# Altium schematic symbol library SamacSys.SchLib: 1281 symbols (part 13 of 13)
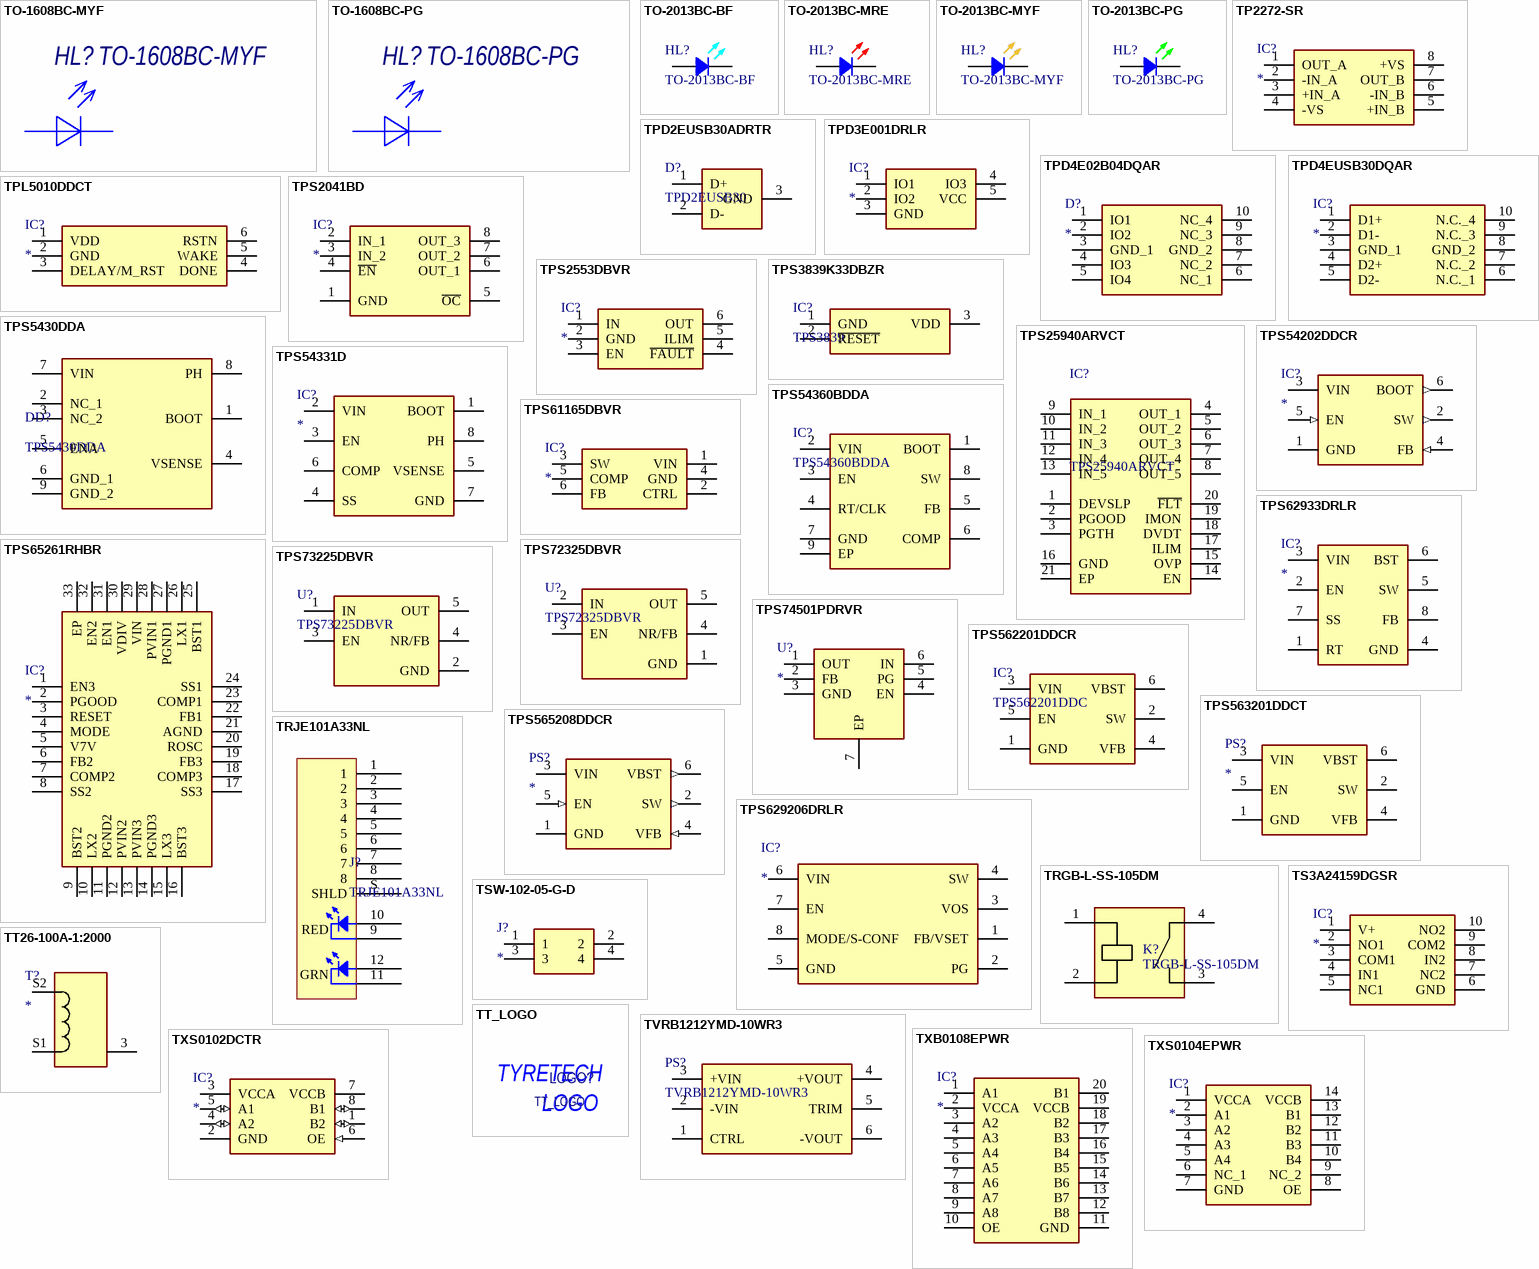
[diagram p59: symbols TO-1608BC-MYF to TXS0104EPWR]

## TPL5010DDCT
designator IC?
Integrated Circuit; Manufacturer_Name: Texas Instruments; Manufacturer_Part_Number: TPL5010DDCT; Datasheet Link: http://www.ti.com/lit/ds/symlink/tpl5010.pdf; Height: 1.1mm; Mouser Part Number: 595-TPL5010DDCT; Mouser Price/Stock: https://www.mouser.co.uk/ProductDetail/Texas-Instruments/TPL5010DDCT?qs=beZBGHSk9c06Mf4cbaYiUA%3D%3D; Arrow Part Number: TPL5010DDCT; Arrow Price/Stock: https://www.arrow.com/en/products/tpl5010ddct/texas-instruments?region=nac
footprint SOT95P280X110-6N
pins: 1 VDD, 2 GND, 3 DELAY/M_RST, 4 DONE, 5 WAKE, 6 RSTN

## TPS2041BD
designator IC?
IC PWR SWITCH N-CHAN 1:1 8SOIC; Manufacturer_Name: Texas Instruments; Manufacturer_Part_Number: TPS2041BD; Datasheet Link: http://www.ti.com/lit/gpn/tps2041b; Height: 1.75mm; Mouser Part Number: 595-TPS2041BD; Mouser Price/Stock: https://www.mouser.co.uk/ProductDetail/Texas-Instruments/TPS2041BD?qs=ojKcPFmCWSXYqmPq5V0woQ%3D%3D; Arrow Part Number: TPS2041BD; Arrow Price/Stock: https://www.arrow.com/en/products/tps2041bd/texas-instruments?region=nac
footprint SOIC127P600X175-8N
pins: 1 GND, 2 IN_1, 3 IN_2, 4 ~{EN}, 5 ~{OC}, 6 OUT_1, 7 OUT_2, 8 OUT_3

## TPS2553DBVR
designator IC?
IC PWR SWITCH N-CHAN 1.5A 1:1 SOT23-6; Manufacturer_Name: Texas Instruments; Manufacturer_Part_Number: TPS2553DBVR; Datasheet Link: http://www.ti.com/lit/gpn/tps2553; Height: 1.45mm; Mouser Part Number: 595-TPS2553DBVR; Mouser Price/Stock: https://www.mouser.co.uk/ProductDetail/Texas-Instruments/TPS2553DBVR?qs=QZKT0uTfj2LY8QSfRgrLvA%3D%3D; Arrow Part Number: TPS2553DBVR; Arrow Price/Stock: https://www.arrow.com/en/products/tps2553dbvr/texas-instruments?region=nac
footprint SOT95P280X145-6N
pins: 1 IN, 2 GND, 3 EN, 4 ~{FAULT}, 5 ILIM, 6 OUT

## TPS3839K33DBZR
designator IC?, comment TPS3839
IC SUPERVISOR RESET 200msSOT-23-3; Manufacturer_Name: Texas Instruments; Manufacturer_Part_Number: TPS3839K33DBZR; Datasheet Link: https://www.ti.com/lit/gpn/TPS3839; Height: 1.12mm; Mouser Part Number: 595-TPS3839K33DBZR; Mouser Price/Stock: https://www.mouser.co.uk/ProductDetail/Texas-Instruments/TPS3839K33DBZR?qs=4whTb%2F0XQMjHAv1zNV0Odw%3D%3D; Arrow Part Number: TPS3839K33DBZR; Arrow Price/Stock: https://www.arrow.com/en/products/tps3839k33dbzr/texas-instruments?region=nac
footprint SOT95P237X112-3N
pins: 1 GND, 2 ~{RESET}, 3 VDD

## TPS5430DDA
designator DD?
IC DCDC BUCK 5,5-36Vin 3A; Manufacturer_Name: Texas Instruments; Datasheet Link: https://datasheet.datasheetarchive.com/originals/distributors/Datasheets-SFU2/DSASFU100034215.pdf; Height: 1.7mm; Manufacturer_Part_Number: TPS5430DDA; Mouser Part Number: 595-TPS5430DDA; Mouser Price/Stock: https://www.mouser.co.uk/ProductDetail/Texas-Instruments/TPS5430DDA?qs=zwk82MlA57bk5fOPRvfoCA%3D%3D; Arrow Part Number: TPS5430DDA; Arrow Price/Stock: https://www.arrow.com/en/products/tps5430dda/texas-instruments?region=nac
footprint SOIC127P600X170-9N
pins: 1 BOOT, 2 NC_1, 3 NC_2, 4 VSENSE, 5 ENA, 6 GND_1, 7 VIN, 8 PH, 9 GND_2

## TPS25940ARVCT
designator IC?
18V, 5A, 42m eFuse With Integrated Reverse Current Protection and DevSleep Support; Manufacturer_Name: Texas Instruments; Geometry.Height: 0.8mm; Manufacturer_Part_Number: TPS25940ARVCT; Mouser Part Number: 595-TPS25940ARVCT; Mouser Price/Stock: https://www.mouser.co.uk/ProductDetail/Texas-Instruments/TPS25940ARVCT?qs=1MXlzafEN39WRT24Wg%2FJYg%3D%3D; Arrow Part Number: TPS25940ARVCT; Arrow Price/Stock: https://www.arrow.com/en/products/tps25940arvct/texas-instruments?region=europe; Datasheet Link: http://www.ti.com/lit/gpn/tps25940
footprint QFN50P300X400X80-21N
pins: 1 DEVSLP, 2 PGOOD, 3 PGTH, 4 OUT_1, 5 OUT_2, 6 OUT_3, 7 OUT_4, 8 OUT_5, 9 IN_1, 10 IN_2, 11 IN_3, 12 IN_4, 13 IN_5, 14 EN, 15 OVP, 16 GND, 17 ILIM, 18 DVDT, 19 IMON, 20 ~{FLT}, 21 EP

## TPS54202DDCR
designator IC?
IC REG DCDC BUCK ADJ VIN 4.5-28V 2A SOT23; Manufacturer_Name: Texas Instruments; Manufacturer_Part_Number: TPS54202DDCR; Datasheet Link: http://www.ti.com/lit/gpn/tps54202; Height: 1.1mm; Arrow Part Number: TPS54202DDCR; Arrow Price/Stock: https://www.arrow.com/en/products/tps54202ddcr/texas-instruments?utm_currency=USD&region=europe
footprint SOT95P280X110-6N
pins: 1 GND (power), 2 SW (out), 3 VIN (power), 4 FB (in), 5 EN (in), 6 BOOT (out)

## TPS54331D
designator IC?
Integrated Circuit; Manufacturer_Name: Texas Instruments; Manufacturer_Part_Number: TPS54331D; Datasheet Link: http://www.ti.com/lit/gpn/tps54331; Height: 1.75mm; Mouser Part Number: 595-TPS54331D; Mouser Price/Stock: https://www.mouser.co.uk/ProductDetail/Texas-Instruments/TPS54331D?qs=QyYHynRG50pEbpiybdzwkw%3D%3D; Arrow Part Number: TPS54331D; Arrow Price/Stock: https://www.arrow.com/en/products/tps54331d/texas-instruments?region=nac
footprint SOIC127P600X175-8N
pins: 1 BOOT, 2 VIN, 3 EN, 4 SS, 5 VSENSE, 6 COMP, 7 GND, 8 PH

## TPS54360BDDA
designator IC?
IC REG BUCK ADJ 3.5A 8SOPWR; Manufacturer_Name: Texas Instruments; Datasheet Link: https://www.ti.com/lit/gpn/tps54360b; Height: 1.7mm; Manufacturer_Part_Number: TPS54360BDDA; Mouser Part Number: 595-TPS54360BDDA; Mouser Price/Stock: https://www.mouser.co.uk/ProductDetail/Texas-Instruments/TPS54360BDDA?qs=l7cgNqFNU1hVzPeNs26qdQ%3D%3D; Arrow Part Number: TPS54360BDDA; Arrow Price/Stock: https://www.arrow.com/en/products/tps54360bdda/texas-instruments.html?utm_currency=USD&region=nac
footprint SOIC127P600X170-9N
pins: 1 BOOT, 2 VIN, 3 EN, 4 RT/CLK, 5 FB, 6 COMP, 7 GND, 8 SW, 9 EP

## TPS61165DBVR
designator IC?
Integrated Circuit; Manufacturer_Name: Texas Instruments; Manufacturer_Part_Number: TPS61165DBVR; Datasheet Link: https://www.ti.com/lit/gpn/TPS61165; Height: 1.45mm; Mouser Part Number: 595-TPS61165DBVR; Mouser Price/Stock: https://www.mouser.co.uk/ProductDetail/Texas-Instruments/TPS61165DBVR?qs=HM7Ob9npyBLl0sTgi6JQSQ%3D%3D; Arrow Part Number: TPS61165DBVR; Arrow Price/Stock: https://www.arrow.com/en/products/tps61165dbvr/texas-instruments?region=nac
footprint SOT95P280X145-6N
pins: 1 VIN, 2 CTRL, 3 SW, 4 GND, 5 COMP, 6 FB

## TPS62933DRLR
designator IC?
Integrated Circuit; Manufacturer_Name: Texas Instruments; Manufacturer_Part_Number: TPS62933DRLR; Datasheet Link: https://www.ti.com/lit/ds/symlink/tps62933.pdf?ts=1626073394234; Height: 0.6mm; Mouser Part Number: 595-TPS62933DRLR; Mouser Price/Stock: https://www.mouser.co.uk/ProductDetail/Texas-Instruments/TPS62933DRLR?qs=Rp5uXu7WBW9fv47wfQVntQ%3D%3D; Arrow Part Number: TPS62933DRLR; Arrow Price/Stock: https://www.arrow.com/en/products/tps62933drlr/texas-instruments?region=nac
footprint SOTFL50P160X60-8N
pins: 1 RT, 2 EN, 3 VIN, 4 GND, 5 SW, 6 BST, 7 SS, 8 FB

## TPS65261RHBR
designator IC?
Integrated Circuit; Manufacturer_Name: Texas Instruments; Manufacturer_Part_Number: TPS65261RHBR; Datasheet Link: http://www.ti.com/lit/gpn/tps65261; Height: 1mm; Mouser Part Number: 595-TPS65261RHBR; Mouser Price/Stock: https://www.mouser.co.uk/ProductDetail/Texas-Instruments/TPS65261RHBR?qs=wrT8kFYR779HFUFgnzaynQ%3D%3D; Arrow Part Number: TPS65261RHBR; Arrow Price/Stock: https://www.arrow.com/en/products/tps65261rhbr/texas-instruments?region=nac
footprint QFN50P500X500X100-33N-D
pins: 1 EN3, 2 PGOOD, 3 RESET, 4 MODE, 5 V7V, 6 FB2, 7 COMP2, 8 SS2, 9 BST2, 10 LX2, 11 PGND2, 12 PVIN2, 13 PVIN3, 14 PGND3, 15 LX3, 16 BST3, 17 SS3, 18 COMP3, 19 FB3, 20 ROSC, 21 AGND, 22 FB1, 23 COMP1, 24 SS1, 25 BST1, 26 LX1, 27 PGND1, 28 PVIN1, 29 VIN, 30 VDIV, 31 EN1, 32 EN2, 33 EP

## TPS72325DBVR
designator U?
Integrated Circuit; Manufacturer_Name: Texas Instruments; Datasheet Link: https://datasheet.datasheetarchive.com/originals/distributors/Datasheets-SFU2/DSASFU100034060.pdf; Height: 1.45mm; Manufacturer_Part_Number: TPS72325DBVR; Mouser Part Number: 595-TPS72325DBVR; Mouser Price/Stock: https://www.mouser.co.uk/ProductDetail/Texas-Instruments/TPS72325DBVR?qs=6zVL%252ByCp0mrCtYCk6%2F08lw%3D%3D; Arrow Part Number: TPS72325DBVR; Arrow Price/Stock: https://www.arrow.com/en/products/tps72325dbvr/texas-instruments?region=nac
footprint SOT95P280X145-5N
pins: 1 GND, 2 IN, 3 EN, 4 NR/FB, 5 OUT

## TPS73225DBVR
designator U?
Integrated Circuit; Manufacturer_Name: Texas Instruments; Datasheet Link: http://www.ti.com/lit/gpn/TPS732; Height: 1.45mm; Manufacturer_Part_Number: TPS73225DBVR; Mouser Part Number: 595-TPS73225DBVR; Mouser Price/Stock: https://www.mouser.co.uk/ProductDetail/Texas-Instruments/TPS73225DBVR?qs=6zVL%252ByCp0mppRt%2FlO1M%2F9w%3D%3D; Arrow Part Number: TPS73225DBVR; Arrow Price/Stock: https://www.arrow.com/en/products/tps73225dbvr/texas-instruments
footprint SOT95P280X145-5N
pins: 1 IN, 2 GND, 3 EN, 4 NR/FB, 5 OUT

## TPS74501PDRVR
designator U?
Integrated Circuit; Manufacturer_Name: Texas Instruments; Manufacturer_Part_Number: TPS74501PDRVR; Datasheet Link: http://www.ti.com/lit/gpn/TPS745; Height: 0.8mm; Mouser Part Number: 595-TPS74501PDRVR; Mouser Price/Stock: https://www.mouser.com/Search/Refine.aspx?Keyword=595-TPS74501PDRVR; Arrow Part Number: TPS74501PDRVR; Arrow Price/Stock: https://www.arrow.com/en/products/tps74501pdrvr/texas-instruments
footprint SON65P200X200X80-7N
pins: 1 OUT, 2 FB, 3 GND, 4 EN, 5 PG, 6 IN, 7 EP

## TPS562201DDCR
designator IC?, comment TPS562201DDC
Integrated Circuit, DCDC, 4.5 V to 17 V, 2A; Manufacturer_Name: Texas Instruments; Manufacturer_Part_Number: TPS562201DDCR; Datasheet Link: http://www.ti.com/lit/gpn/tps562201; Height: 1.1mm; Mouser Part Number: 595-TPS562201DDCR; Mouser Price/Stock: https://www.mouser.co.uk/ProductDetail/Texas-Instruments/TPS562201DDCR?qs=8%2FmU9qzJpL8znxxpy0ZjNg%3D%3D; Arrow Part Number: TPS562201DDCR; Arrow Price/Stock: https://www.arrow.com/en/products/tps562201ddcr/texas-instruments?region=nac
footprint SOT95P280X110-6N
pins: 1 GND, 2 SW, 3 VIN, 4 VFB, 5 EN, 6 VBST

## TPS563201DDCT
designator PS?
Power Supply; Manufacturer_Name: Texas Instruments; Manufacturer_Part_Number: TPS563201DDCT; Datasheet Link: http://www.ti.com/general/docs/lit/getliterature.tsp?genericPartNumber=tps563201&fileType=pdf; Height: 1.1mm; Mouser Part Number: 595-TPS563201DDCT; Mouser Price/Stock: https://www.mouser.co.uk/ProductDetail/Texas-Instruments/TPS563201DDCT?qs=G55MHhPmvtJpxrlgluYVKA%3D%3D; Arrow Part Number: TPS563201DDCT; Arrow Price/Stock: https://www.arrow.com/en/products/tps563201ddct/texas-instruments?utm_currency=USD&region=nac
footprint SOT95P280X110-6N
pins: 1 GND, 2 SW, 3 VIN, 4 VFB, 5 EN, 6 VBST

## TPS565208DDCR
designator PS?
Power Supply; Manufacturer_Name: Texas Instruments; Manufacturer_Part_Number: TPS565208DDCR; Datasheet Link: http://www.ti.com/lit/gpn/tps565208; Height: 1.1mm; Mouser Part Number: 595-TPS565208DDCR; Mouser Price/Stock: https://www.mouser.co.uk/ProductDetail/Texas-Instruments/TPS565208DDCR?qs=YCa%2FAAYMW00vylGjeU1iOg%3D%3D; Arrow Part Number: TPS565208DDCR; Arrow Price/Stock: https://www.arrow.com/en/products/tps565208ddcr/texas-instruments?region=nac
footprint SOT95P280X110-6N
pins: 1 GND (power), 2 SW (out), 3 VIN (power), 4 VFB (in), 5 EN (in), 6 VBST (out)

## TPS629206DRLR
designator IC?
Integrated Circuit; Manufacturer_Name: Texas Instruments; Manufacturer_Part_Number: TPS629206QDRLRQ1; Datasheet Link: https://www.ti.com/lit/gpn/TPS629206-Q1; Height: 0.6mm; Mouser Part Number: 595-TPS629206QDRLRQ1; Mouser Price/Stock: https://www.mouser.co.uk/ProductDetail/Texas-Instruments/TPS629206QDRLRQ1?qs=Znm5pLBrcAKSjTz%252BzqwnCQ%3D%3D; Arrow Part Number: TPS629206QDRLRQ1; Arrow Price/Stock: https://www.arrow.com/en/products/tps629206qdrlrq1/texas-instruments?region=nac
footprint SOTFL50P160X60-8N
pins: 1 FB/VSET, 2 PG, 3 VOS, 4 SW, 5 GND, 6 VIN, 7 EN, 8 MODE/S-CONF

## TRGB-L-SS-105DM
designator K?
Relay, 1NO, 277VAC/5A
footprint TRGB-L-SS-124DM
pins: 1 COIL_1, 2 NC, 3 NO, 4 COIL_2

## TRJE101A33NL
designator J?
Magnetic Jack
footprint TRJE101A33NL (Modular Jack)
pins: 1, 2, 3, 4, 5, 6, 7, 8, 9 P9, 10 P10, 11 P11, 12 P12, S SHLD
text: RED; GRN

## TS3A24159DGSR
designator IC?
Integrated Circuit; Manufacturer_Name: Texas Instruments; Manufacturer_Part_Number: TS3A24159DGSR; Datasheet Link: https://datasheet.datasheetarchive.com/originals/distributors/Datasheets-DGA16/948601.pdf; Height: 1.1mm; Mouser Part Number: 595-TS3A24159DGSR; Mouser Price/Stock: https://www.mouser.co.uk/ProductDetail/Texas-Instruments/TS3A24159DGSR?qs=0OHPnBYoB%2Flfi%2F6h%252BEz0kA%3D%3D; Arrow Part Number: TS3A24159DGSR; Arrow Price/Stock: https://www.arrow.com/en/products/ts3a24159dgsr/texas-instruments?utm_currency=USD&region=nac
footprint SOP50P490X110-10N
pins: 1 V+, 2 NO1, 3 COM1, 4 IN1, 5 NC1, 6 GND, 7 NC2, 8 IN2, 9 COM2, 10 NO2

## TSW-102-05-G-D
designator J?
Connector; Manufacturer_Name: SAMTEC; Manufacturer_Part_Number: TSW-102-05-G-D; Datasheet Link: http://suddendocs.samtec.com/catalog_english/tsw_th.pdf; Height: 5.21mm; Mouser Part Number: 200-TSW10205GD; Mouser Price/Stock: https://www.mouser.co.uk/ProductDetail/Samtec/TSW-102-05-G-D?qs=rU5fayqh%252BE0ksWKDIngWOA%3D%3D; Arrow Part Number: TSW-102-05-G-D; Arrow Price/Stock: https://www.arrow.com/en/products/tsw-102-05-g-d/samtec
footprint HDRV4W64P254_2X2_508X508X521P
pins: 1, 2, 3, 4

## TT26-100A-1:2000
designator T?
Transformer Current; Manufacturer_Name: Up Electronic; Manufacturer_Part_Number: DL-CT1005A; Datasheet Link: http://www.eltranstech.ru/products/izmeritelnye-transformatory-i-datchiki-toka/transformatory-serii-tt26/tt26-100a-xx-z-0-1-2000/; Height: 25mm
footprint TT
pins: 3 NC_1, S1, S2

## TT_LOGO
designator LOGO?  (no BOM)
footprint TT_LOGO
footprint TT_LOGO_SMALL
text: TYRETECH; LOGO

## TVRB1212YMD-10WR3
designator PS?
Power Supply, 12V (9-18V) -> 12V, 833mA, 10W; Manufacturer_Name: Mornsun; Manufacturer_Part_Number: URB1D15LD-20WR3; Datasheet Link: https://www.mornsun-power.com/html/pdf/URB1D15LD-20WR3.html; Height: 11.8
footprint PDQE30
pins: 1 CTRL, 2 -VIN, 3 +VIN, 4 +VOUT, 5 TRIM, 6 -VOUT

## TXB0108EPWR
designator IC?
Integrated Circuit; Manufacturer_Name: Texas Instruments; Manufacturer_Part_Number: TXB0108EPWR; Datasheet Link: http://www.ti.com/lit/ds/symlink/txb0108.pdf; Height: 1.2mm
footprint SOP65P640X120-20N
pins: 1 A1, 2 VCCA, 3 A2, 4 A3, 5 A4, 6 A5, 7 A6, 8 A7, 9 A8, 10 OE, 11 GND, 12 B8, 13 B7, 14 B6, 15 B5, 16 B4, 17 B3, 18 B2, 19 VCCB, 20 B1

## TXS0102DCTR
designator IC?
Integrated Circuit; Manufacturer_Name: Texas Instruments; Manufacturer_Part_Number: TXS0102DCTR; Datasheet Link: http://www.ti.com/lit/gpn/txs0102; Height: 1.3mm; Mouser Part Number: 595-TXS0102DCTR; Mouser Price/Stock: https://www.mouser.co.uk/ProductDetail/Texas-Instruments/TXS0102DCTR?qs=BWabSxB1G9cell1mrpKPvA%3D%3D; Arrow Part Number: TXS0102DCTR; Arrow Price/Stock: https://www.arrow.com/en/products/txs0102dctr/texas-instruments?region=nac
footprint SOP65P400X130-8N
pins: 1 B2 (io), 2 GND (power), 3 VCCA (power), 4 A2 (io), 5 A1 (io), 6 OE (in), 7 VCCB (power), 8 B1 (io)

## TXS0104EPWR
designator IC?
Integrated Circuit; Manufacturer_Name: Texas Instruments; Manufacturer_Part_Number: TXS0104EPWR; Datasheet Link: http://www.ti.com/lit/ds/symlink/txs0104e.pdf; Height: 1.2mm; Mouser Part Number: 595-TXS0104EPWR; Mouser Price/Stock: https://www.mouser.co.uk/ProductDetail/Texas-Instruments/TXS0104EPWR?qs=7kv20MEVUlglsv2MH6ZndA%3D%3D; Arrow Part Number: TXS0104EPWR; Arrow Price/Stock: https://www.arrow.com/en/products/txs0104epwr/texas-instruments.html?utm_currency=USD&region=nac
footprint SOP65P640X120-14N
pins: 1 VCCA, 2 A1, 3 A2, 4 A3, 5 A4, 6 NC_1, 7 GND, 8 OE, 9 NC_2, 10 B4, 11 B3, 12 B2, 13 B1, 14 VCCB

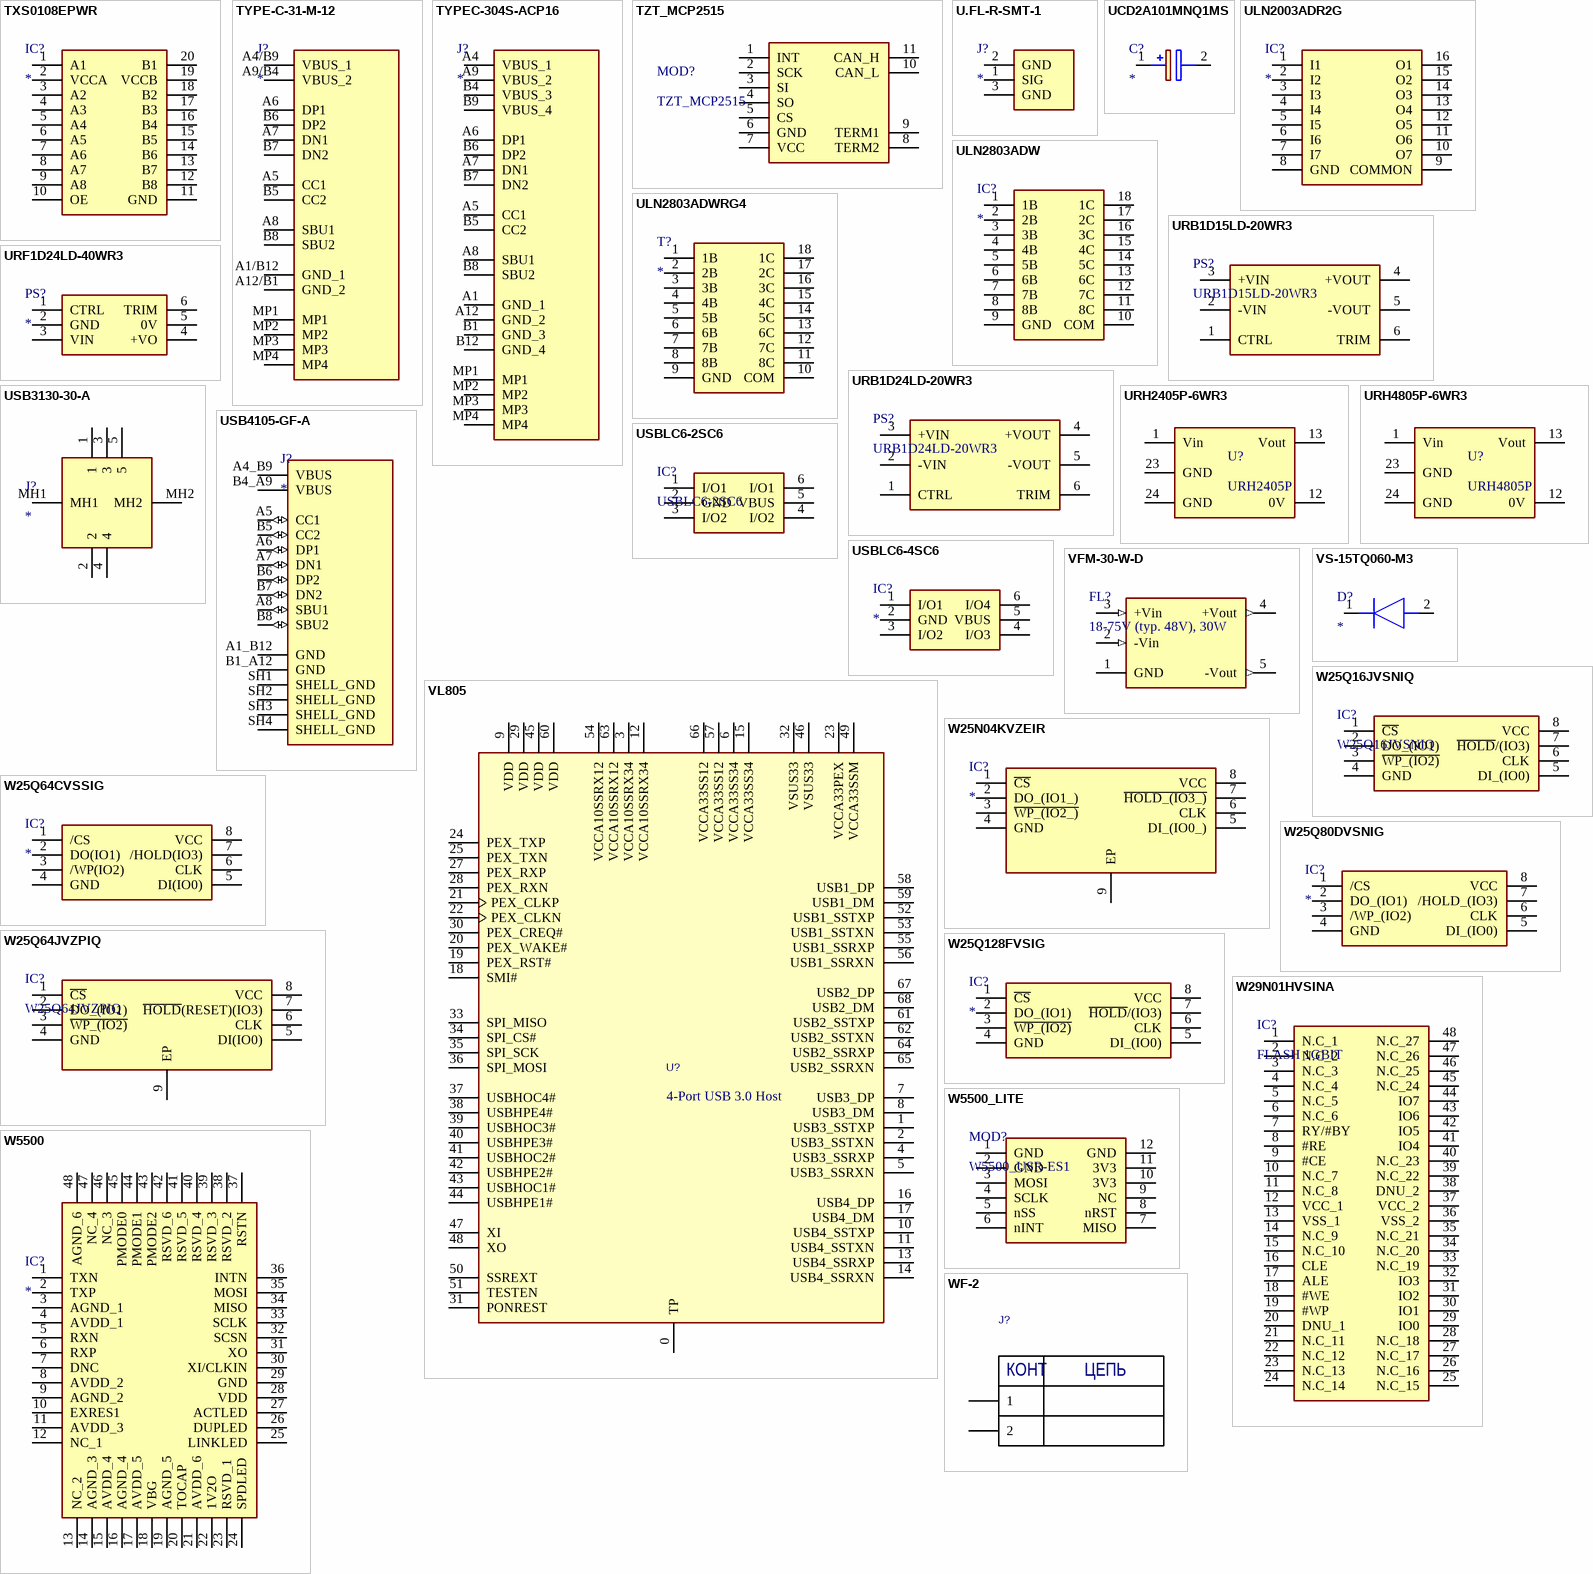
[diagram p46: symbols TXS0108EPWR to WF-2]

## TXS0108EPWR
designator IC?
Integrated Circuit; Manufacturer_Name: Texas Instruments; Manufacturer_Part_Number: TXS0108EPWR; Datasheet Link: http://www.ti.com/lit/ds/symlink/txs0108e.pdf; Height: 1.2mm; Mouser Part Number: 595-TXS0108EPWR; Mouser Price/Stock: https://www.mouser.co.uk/ProductDetail/Texas-Instruments/TXS0108EPWR?qs=IUbkBnfnSQLgiWtCbWtYOw%3D%3D; Arrow Part Number: TXS0108EPWR; Arrow Price/Stock: https://www.arrow.com/en/products/txs0108epwr/texas-instruments?utm_currency=USD&region=nac
footprint SOP65P640X120-20N
pins: 1 A1, 2 VCCA, 3 A2, 4 A3, 5 A4, 6 A5, 7 A6, 8 A7, 9 A8, 10 OE, 11 GND, 12 B8, 13 B7, 14 B6, 15 B5, 16 B4, 17 B3, 18 B2, 19 VCCB, 20 B1

## TYPE-C-31-M-12
designator J?
Connector, USB, TypeC; Manufacturer_Name: Korean Hroparts Elec; Manufacturer_Part_Number: TYPE-C-31-M-12; Datasheet Link: https://www.lcsc.com/datasheet/lcsc_datasheet_2410010003_Korean-Hroparts-Elec-TYPE-C-31-M-12_C165948.pdf; Height: 3.21mm
footprint TYPE-C-31-M-12
pins: A1/B12 GND_1, A4/B9 VBUS_1, A5 CC1, A6 DP1, A7 DN1, A8 SBU1, A9/B4 VBUS_2, A12/B1 GND_2, B5 CC2, B6 DP2, B7 DN2, B8 SBU2, MP1, MP2, MP3, MP4

## TYPEC-304S-ACP16
designator J?
Connector, USB, TypeC; Manufacturer_Name: XUNPU; Manufacturer_Part_Number: TYPEC-304S-ACP16; Datasheet Link: https://datasheet.lcsc.com/szlcsc/2008152133_XUNPU-TYPEC-304S-ACP16_C720630.pdf; Height: 3.21mm
footprint TYPEC304SACP16
pins: A1 GND_1, A4 VBUS_1, A5 CC1, A6 DP1, A7 DN1, A8 SBU1, A9 VBUS_2, A12 GND_2, B1 GND_3, B4 VBUS_3, B5 CC2, B6 DP2, B7 DN2, B8 SBU2, B9 VBUS_4, B12 GND_4, MP1, MP2, MP3, MP4

## TZT_MCP2515
designator MOD?
CAN Bus Driver MODULE, PBS-7 + 2xPBS-2; Manufacturer_Name: TZT; Manufacturer_Part_Number: TZT_MCP2515; Part Number: PBS-7 + 2xPBS-2
footprint TZT_MCP2515_MOD (Footprint not found)
pins: 1 INT, 2 SCK, 3 SI, 4 SO, 5 CS, 6 GND, 7 VCC, 8 TERM2, 9 TERM1, 10 CAN_L, 11 CAN_H

## U.FL-R-SMT-1
designator J?
Connector, uFL; Manufacturer_Name: Hirose; Manufacturer_Part_Number: U.FL-R-SMT-1; Height: 1.5
footprint U.FL-R-SMT-1 (U.FL connector)
pins: 1 SIG, 2 GND, 3 GND

## UCD2A101MNQ1MS
designator C?
Capacitor Polarised; Manufacturer_Name: Nichicon; Manufacturer_Part_Number: UCD2A101MNQ1MS; Datasheet Link: https://www.nichicon.co.jp/english/products/pdfs/e-ucd.pdf; Height: 17.5mm; Mouser Part Number: 647-UCD2A101MNQ1MS; Mouser Price/Stock: https://www.mouser.co.uk/ProductDetail/Nichicon/UCD2A101MNQ1MS?qs=c0uEScvPYN044nhIlntWOw%3D%3D
footprint CAPAE1710X1750N
pins: 1 +, 2 -

## ULN2003ADR2G
designator IC?
Integrated Circuit; Manufacturer_Name: ON Semiconductor; Manufacturer_Part_Number: ULN2003ADR2G; Datasheet Link: http://www.onsemi.com/pub/Collateral/ULN2003A-D.PDF; Height: 1.75mm; Mouser Part Number: 863-ULN2003ADR2G; Mouser Price/Stock: https://www.mouser.co.uk/ProductDetail/onsemi/ULN2003ADR2G?qs=t2BMfLoP1KRgd83C6tnDAg%3D%3D; Arrow Part Number: ULN2003ADR2G; Arrow Price/Stock: https://www.arrow.com/en/products/uln2003adr2g/on-semiconductor?region=nac
footprint SOIC127P600X175-16N
pins: 1 I1, 2 I2, 3 I3, 4 I4, 5 I5, 6 I6, 7 I7, 8 GND, 9 COMMON, 10 O7, 11 O6, 12 O5, 13 O4, 14 O3, 15 O2, 16 O1

## ULN2803ADW
designator IC?
Integrated Circuit; Manufacturer_Name: Texas Instruments; Manufacturer_Part_Number: ULN2803ADW; Datasheet Link: https://datasheet.datasheetarchive.com/originals/distributors/Datasheets-37/DSA-728386.pdf; Height: 2.65mm; Mouser Part Number: 595-ULN2803ADW; Mouser Price/Stock: https://www.mouser.co.uk/ProductDetail/Texas-Instruments/ULN2803ADW?qs=pbofycSuseMKwJOYHHUaYQ%3D%3D; Arrow Part Number: ULN2803ADW; Arrow Price/Stock: https://www.arrow.com/en/products/uln2803adw/texas-instruments?region=nac; LCSC Part #: C2758014
footprint SOIC127P1030X265-18N
pins: 1 1B, 2 2B, 3 3B, 4 4B, 5 5B, 6 6B, 7 7B, 8 8B, 9 GND, 10 COM, 11 8C, 12 7C, 13 6C, 14 5C, 15 4C, 16 3C, 17 2C, 18 1C

## ULN2803ADWRG4
designator T?
Transformer; Manufacturer_Name: Texas Instruments; Manufacturer_Part_Number: ULN2803ADWRG4; Datasheet Link: http://www.ti.com/lit/ds/symlink/uln2803a.pdf; Height: 2.65mm; Mouser Part Number: 595-ULN2803ADWRG4; Mouser Price/Stock: https://www.mouser.co.uk/ProductDetail/Texas-Instruments/ULN2803ADWRG4?qs=pbofycSusePr3zMQZfJ%2FRA%3D%3D; Arrow Part Number: ULN2803ADWRG4; Arrow Price/Stock: https://www.arrow.com/en/products/uln2803adwrg4/texas-instruments
footprint SOIC127P1030X265-18N
pins: 1 1B, 2 2B, 3 3B, 4 4B, 5 5B, 6 6B, 7 7B, 8 8B, 9 GND, 10 COM, 11 8C, 12 7C, 13 6C, 14 5C, 15 4C, 16 3C, 17 2C, 18 1C

## URB1D15LD-20WR3
designator PS?
Power Supply, 110V (40-160V) -> 15V, 833mA, 20W; Manufacturer_Name: Mornsun; Datasheet Link: https://www.mornsun-power.com/html/pdf/URB1D15LD-20WR3.html; Height: 11.8; Manufacturer_Part_Number: URB1D15LD-20WR3
footprint URB1D15LD
pins: 1 CTRL, 2 -VIN, 3 +VIN, 4 +VOUT, 5 -VOUT, 6 TRIM

## URB1D24LD-20WR3
designator PS?
Power Supply, 110V (40-160V) -> 24V, 833mA, 20W; Manufacturer_Name: Mornsun; Manufacturer_Part_Number: URB1D15LD-20WR3; Datasheet Link: https://www.mornsun-power.com/html/pdf/URB1D15LD-20WR3.html; Height: 11.8
footprint URB1D15LD
pins: 1 CTRL, 2 -VIN, 3 +VIN, 4 +VOUT, 5 -VOUT, 6 TRIM

## URF1D24LD-40WR3
designator PS?
Power Supply; Manufacturer_Name: Mornsun Power; Manufacturer_Part_Number: URF1D24LD-40WR3; Datasheet Link: https://www.mornsun-power.com/html/pdf/URF1D24LD-40WR3.html; Height: 12.3mm
footprint URF1D24LD40WR3
pins: 1 CTRL, 2 GND, 3 VIN, 4 +VO, 5 0V, 6 TRIM

## URH2405P-6WR3
designator U?, comment URH2405P
DC-DC converter, 6W isolated, DIP
footprint URH_P-6WR3 (MORNSUN DCDC)
pins: 1 Vin, 12 0V, 13 Vout, 23 GND, 24 GND

## URH4805P-6WR3
designator U?, comment URH4805P
DC-DC converter, 6W isolated, DIP
footprint URH_P-6WR3 (MORNSUN DCDC)
pins: 1 Vin, 12 0V, 13 Vout, 23 GND, 24 GND

## USB3130-30-A
designator J?
Connector; Manufacturer_Name: GCT (GLOBAL CONNECTOR TECHNOLOGY); Manufacturer_Part_Number: USB3130-30-A; Detailed Description: USB - micro B USB 2.0 Receptacle Connector 5 Position Through Hole; Datasheet Link: https://gct.co/connector/usb3130; Height: 5.6mm; Mouser Part Number: 640-USB3130-30-A; Mouser Price/Stock: https://www.mouser.co.uk/ProductDetail/GCT/USB3130-30-A?qs=KUoIvG%2F9IlZPehF28lb1hg%3D%3D
footprint USB313030A
pins: 1, 2, 3, 4, 5, MH1, MH2

## USB4105-GF-A
designator J?
Connector, USB Type C; Manufacturer: GCT; Part Number: USB4105-GF-A
footprint GCT_USB4105-GF-A
pins: A1_B12 GND (power), A4_B9 VBUS (power), A5 CC1 (io), A6 DP1 (io), A7 DN1 (io), A8 SBU1 (io), B1_A12 GND (power), B4_A9 VBUS (power), B5 CC2 (io), B6 DP2 (io), B7 DN2 (io), B8 SBU2 (io), SH1 SHELL_GND (power), SH2 SHELL_GND (power), SH3 SHELL_GND (power), SH4 SHELL_GND (power)

## USBLC6-2SC6
designator IC?
IC 2 LINE TVS ARRAY; Manufacturer_Name: STMicroelectronics; Datasheet Link: http://www.st.com/st-web-ui/static/active/en/resource/technical/document/datasheet/CD00050750.pdf; Height: 1.45mm; Manufacturer_Part_Number: USBLC6-2SC6; Mouser Part Number: 511-USBLC6-2SC6; Mouser Price/Stock: https://www.mouser.co.uk/ProductDetail/STMicroelectronics/USBLC6-2SC6?qs=po45yt2pPpu%2FhNIlwQdTlg%3D%3D; Arrow Part Number: USBLC6-2SC6; Arrow Price/Stock: https://www.arrow.com/en/products/usblc6-2sc6/stmicroelectronics?region=nac
footprint SOT95P280X145-6N
pins: 1 I/O1, 2 GND, 3 I/O2, 4 I/O2, 5 VBUS, 6 I/O1

## USBLC6-4SC6
designator IC?
Integrated Circuit; Manufacturer_Name: STMicroelectronics; Manufacturer_Part_Number: USBLC6-4SC6; Datasheet Link: http://www.st.com/st-web-ui/static/active/en/resource/technical/document/datasheet/CD00047494.pdf; Height: 1.45mm; Mouser Part Number: 511-USBLC6-4SC6; Mouser Price/Stock: https://www.mouser.co.uk/ProductDetail/STMicroelectronics/USBLC6-4SC6?qs=k9dH%2Fx4GHJCNdehb8zInZg%3D%3D; Arrow Part Number: USBLC6-4SC6; Arrow Price/Stock: https://www.arrow.com/en/products/usblc6-4sc6/stmicroelectronics?region=nac
footprint SOT95P280X145-6N
pins: 1 I/O1, 2 GND, 3 I/O2, 4 I/O3, 5 VBUS, 6 I/O4

## VFM-30-W-D
designator FL?, comment 18-75V (typ. 48V), 30W
DC LINE POWER FILTER, 18-75V (typ. 48V), 30W; Manufacturer_Name: CUI Inc.; Manufacturer_Part_Number: VFM-30-W-D; Datasheet Link: https://www.cui.com/product/resource/vfm-30-w.pdf; Height: 19mm; Vin: 18-75V (typ. 48V); Power: 30W
footprint VFM-30-W-D (DC EMI FILTER)
pins: 1 GND, 2 -Vin (in), 3 +Vin (in), 4 +Vout (out), 5 -Vout (out)

## VL805
designator U?, comment 4-Port USB 3.0 Host
VIA Lab’s VL805  4-Port is a USB 3.0 Host controller, which enables a PCI Express
footprint QFN40P800X800X90_HS-69N (QFN, 68-Leads, Body 8,00x8,00mm, Pitch 0,40mm, Thermal Pad 6,20x6,20mm, IPC Medium Density)
pins: 0 TP, 1 USB3_SSTXP, 2 USB3_SSTXN, 3 VCCA10SSRX34, 4 USB3_SSRXP, 5 USB3_SSRXN, 6 VCCA33SS34, 7 USB3_DP, 8 USB3_DM, 9 VDD, 10 USB4_SSTXP, 11 USB4_SSTXN, 12 VCCA10SSRX34, 13 USB4_SSRXP, 14 USB4_SSRXN, 15 VCCA33SS34, 16 USB4_DP, 17 USB4_DM, 18 SMI#, 19 PEX_RST#, 20 PEX_WAKE#, 21 PEX_CLKP, 22 PEX_CLKN, 23 VCCA33PEX, 24 PEX_TXP, 25 PEX_TXN, 26 NC hidden, 27 PEX_RXP, 28 PEX_RXN, 29 VDD, 30 PEX_CREQ#, 31 PONREST, 32 VSUS33, 33 SPI_MISO, 34 SPI_CS#, 35 SPI_SCK, 36 SPI_MOSI, 37 USBHOC4#, 38 USBHPE4#, 39 USBHOC3#, 40 USBHPE3#, 41 USBHOC2#, 42 USBHPE2#, 43 USBHOC1#, 44 USBHPE1#, 45 VDD, 46 VSUS33, 47 XI, 48 XO, 49 VCCA33SSM, 50 SSREXT, 51 TESTEN, 52 USB1_SSTXP, 53 USB1_SSTXN, 54 VCCA10SSRX12, 55 USB1_SSRXP, 56 USB1_SSRXN, 57 VCCA33SS12, 58 USB1_DP, 59 USB1_DM, 60 VDD, 61 USB2_SSTXP, 62 USB2_SSTXN, 63 VCCA10SSRX12, 64 USB2_SSRXP, 65 USB2_SSRXN, 66 VCCA33SS12, 67 USB2_DP, 68 USB2_DM

## VS-15TQ060-M3
designator D?
Diode; Manufacturer_Name: Vishay; Manufacturer_Part_Number: VS-15TQ060-M3; Datasheet Link: https://componentsearchengine.com/Datasheets/1/VS-15TQ060-M3.pdf; Height: 15.35mm; Mouser Part Number: 78-VS-15TQ060-M3; Mouser Price/Stock: https://www.mouser.co.uk/ProductDetail/Vishay-Semiconductors/VS-15TQ060-M3?qs=MLItCLRbWsymVmu8JZR%252BuA%3D%3D; Arrow Part Number: VS-15TQ060-M3; Arrow Price/Stock: https://www.arrow.com/en/products/vs-15tq060-m3/vishay?region=nac
footprint VS15TQ060M3
pins: 1 K, 2 A

## W25N04KVZEIR
designator IC?
Integrated Circuit; Manufacturer_Name: Winbond; Manufacturer_Part_Number: W25N04KVZEIR; Datasheet Link: https://www.winbond.com/resource-files/W25N04KVxxIRU_Datasheet_20221209_RevD.pdf; Height: 0.8mm; Mouser Part Number: 454-W25N04KVZEIR; Mouser Price/Stock: https://www.mouser.co.uk/ProductDetail/Winbond/W25N04KVZEIR?qs=YwPsRIUVAOdveyibmg1m8Q%3D%3D
footprint SON127P800X600X80-9N-D
pins: 1 ~{CS}, 2 DO_(IO1_), 3 ~{WP_(IO2_)}, 4 GND, 5 DI_(IO0_), 6 CLK, 7 ~{HOLD_(IO3_)}, 8 VCC, 9 EP

## W25Q16JVSNIQ
designator IC?
Integrated Circuit; Manufacturer_Name: Winbond; Datasheet Link: https://www.winbond.com/hq/search-resource-file.jsp?partNo=W25Q16JVSNIM&type=datasheet; Height: 1.75mm; Manufacturer_Part_Number: W25Q16JVSNIQ; Mouser Part Number: W25Q16JVSNIQ; Mouser Price/Stock: https://www.mouser.co.uk/ProductDetail/Winbond/W25Q16JVSNIM?qs=qSfuJ%252Bfl%2Fd6RPTIAb6Crug%3D%3D; Arrow Part Number: W25Q16JVSNIM; Arrow Price/Stock: https://www.arrow.com/en/products/w25q16jvsnim/winbond-electronics?region=nac
footprint SOIC127P600X175-8N
pins: 1 ~{CS}, 2 DO_(IO1), 3 ~{WP_(IO2)}, 4 GND, 5 DI_(IO0), 6 CLK, 7 ~{HOLD}/(IO3), 8 VCC

## W25Q64CVSSIG
designator IC?
Integrated Circuit; Manufacturer_Name: Winbond; Manufacturer_Part_Number: W25Q64CVSSIG; Datasheet Link: https://datasheet.datasheetarchive.com/originals/distributors/Datasheets-DGA23/1524497.pdf; Height: 2.16mm; Mouser Part Number: N/A; Mouser Price/Stock: https://www.mouser.com/Search/Refine.aspx?Keyword=N%2FA
footprint SOIC127P790X216-8N
pins: 1 /CS, 2 DO(IO1), 3 /WP(IO2), 4 GND, 5 DI(IO0), 6 CLK, 7 /HOLD(IO3), 8 VCC

## W25Q64JVZPIQ
designator IC?
IC FLASH 64MBIT SPI/QUAD 8WSON; Manufacturer_Name: Winbond; Manufacturer_Part_Number: W25Q64JVZPIQ TR; Datasheet Link: https://www.winbond.com/resource-files/w25q64jv%20revj%2003272018%20plus.pdf; Height: 0.8mm; Mouser Part Number: 454-W25Q64JVZPIQTR; Mouser Price/Stock: https://www.mouser.co.uk/ProductDetail/Winbond/W25Q64JVZPIQ-TR?qs=qSfuJ%252Bfl%2Fd4DaSgaekTOWw%3D%3D; Arrow Part Number: W25Q64JVZPIQ TR; Arrow Price/Stock: https://www.arrow.com/en/products/w25q64jvzpiqtr/winbond-electronics?utm_currency=USD&region=nac
footprint SON127P600X500X80-9N-D
pins: 1 ~{CS}, 2 DO_(IO1), 3 ~{WP_(IO2)}, 4 GND, 5 DI(IO0), 6 CLK, 7 ~{HOLD}(RESET)(IO3), 8 VCC, 9 EP

## W25Q80DVSNIG
designator IC?
Integrated Circuit; Manufacturer_Name: Winbond; Manufacturer_Part_Number: W25Q80DVSNIG; Datasheet Link: https://www.winbond.com/resource-files/w25q80dv_revg_07212015.pdf; Height: 1.75mm; Mouser Part Number: 454-W25Q80DVSNIG; Mouser Price/Stock: https://www.mouser.co.uk/ProductDetail/Winbond/W25Q80DVSNIG?qs=qSfuJ%252Bfl%2Fd4U6qBd6DZUig%3D%3D; Arrow Part Number: W25Q80DVSNIG; Arrow Price/Stock: https://www.arrow.com/en/products/w25q80dvsnig/winbond-electronics
footprint SOIC127P600X175-8N
pins: 1 /CS, 2 DO_(IO1), 3 /WP_(IO2), 4 GND, 5 DI_(IO0), 6 CLK, 7 /HOLD_(IO3), 8 VCC

## W25Q128FVSIG
designator IC?
Integrated Circuit; Manufacturer_Name: Winbond; Manufacturer_Part_Number: W25Q128FVSIG; Datasheet Link: https://www.winbond.com/resource-files/w25q128fv rev.m 05132016 kms.pdf; Height: 2.16mm; Mouser Part Number: N/A; Mouser Price/Stock: https://www.mouser.co.uk/ProductDetail/Winbond/W25Q128FVSIG?qs=rkhjVJ6%2F3EIwu4pV702YLQ%3D%3D; Arrow Part Number: W25Q128FVSIG; Arrow Price/Stock: https://www.arrow.com/en/products/w25q128fvsig/winbond-electronics
footprint SOIC127P790X216-8N
pins: 1 ~{CS}, 2 DO_(IO1), 3 ~{WP_(IO2)}, 4 GND, 5 DI_(IO0), 6 CLK, 7 ~{HOLD}/(IO3), 8 VCC

## W29N01HVSINA
designator IC?, comment FLASH 1GBIT
IC FLASH 1GBIT 48-TSOP; Manufacturer_Name: Winbond; Manufacturer_Part_Number: W29N01HVSINA TR; Datasheet Link: https://www.winbond.com/resource-files/W29N01HVxxNA_RevD.pdf; Height: 1.2mm; Mouser Part Number: 454-W29N01HVSINATR; Mouser Price/Stock: https://www.mouser.co.uk/ProductDetail/Winbond/W29N01HVSINA-TR?qs=qSfuJ%252Bfl%2Fd5wnqeklVMn%252Bw%3D%3D; Arrow Part Number: W29N01HVSINA TR; Arrow Price/Stock: https://www.arrow.com/en/products/w29n01hvsina-tr/winbond-electronics?utm_currency=USD&region=nac
footprint SOP50P2000X120-48N
pins: 1 N.C_1, 2 N.C_2, 3 N.C_3, 4 N.C_4, 5 N.C_5, 6 N.C_6, 7 RY/#BY, 8 #RE, 9 #CE, 10 N.C_7, 11 N.C_8, 12 VCC_1, 13 VSS_1, 14 N.C_9, 15 N.C_10, 16 CLE, 17 ALE, 18 #WE, 19 #WP, 20 DNU_1, 21 N.C_11, 22 N.C_12, 23 N.C_13, 24 N.C_14, 25 N.C_15, 26 N.C_16, 27 N.C_17, 28 N.C_18, 29 IO0, 30 IO1, 31 IO2, 32 IO3, 33 N.C_19, 34 N.C_20, 35 N.C_21, 36 VSS_2, 37 VCC_2, 38 DNU_2, 39 N.C_22, 40 N.C_23, 41 IO4, 42 IO5, 43 IO6, 44 IO7, 45 N.C_24, 46 N.C_25, 47 N.C_26, 48 N.C_27

## W5500
designator IC?
Integrated Circuit; Manufacturer_Name: WIZnet Inc; Manufacturer_Part_Number: W5500; Datasheet Link: http://wizwiki.net/wiki/lib/exe/fetch.php?media=products:w5500:w5500_ds_v106e_141230.pdf; Height: 1.6mm; Mouser Part Number: 950-W5500; Mouser Price/Stock: https://www.mouser.co.uk/ProductDetail/WIZnet/W5500?qs=2vh%252B45pPFtzthUpYPd4pqA%3D%3D
footprint QFP50P900X900X160-48N
pins: 1 TXN, 2 TXP, 3 AGND_1, 4 AVDD_1, 5 RXN, 6 RXP, 7 DNC, 8 AVDD_2, 9 AGND_2, 10 EXRES1, 11 AVDD_3, 12 NC_1, 13 NC_2, 14 AGND_3, 15 AVDD_4, 16 AGND_4, 17 AVDD_5, 18 VBG, 19 AGND_5, 20 TOCAP, 21 AVDD_6, 22 1V2O, 23 RSVD_1, 24 SPDLED, 25 LINKLED, 26 DUPLED, 27 ACTLED, 28 VDD, 29 GND, 30 XI/CLKIN, 31 XO, 32 SCSN, 33 SCLK, 34 MISO, 35 MOSI, 36 INTN, 37 RSTN, 38 RSVD_2, 39 RSVD_3, 40 RSVD_4, 41 RSVD_5, 42 RSVD_6, 43 PMODE2, 44 PMODE1, 45 PMODE0, 46 NC_3, 47 NC_4, 48 AGND_6

## W5500_LITE
designator MOD?, comment W5500_USR-ES1
Ethernet module W5500; Manufacturer_Name: WIZnet Inc; Datasheet Link: http://wizwiki.net/wiki/lib/exe/fetch.php?media=products:w5500:w5500_ds_v106e_141230.pdf; Height: 1.6mm; Manufacturer_Part_Number: W5500; Mouser Part Number: 950-W5500; Mouser Price/Stock: https://www.mouser.co.uk/ProductDetail/WIZnet/W5500?qs=2vh%252B45pPFtzthUpYPd4pqA%3D%3D
footprint W5500_LITE
pins: 1 GND, 2 GND, 3 MOSI, 4 SCLK, 5 nSS, 6 nINT, 7 MISO, 8 nRST, 9 NC, 10 3V3, 11 3V3, 12 GND

## WF-2
designator J?  (value not drawn)
Connector; Manufacturer: Connfly; Part Number: WF-6; Part Number1: DS1070-6 M; System: Connector
footprint WF-2 (Footprint not found)
pins: 1, 2
text: КОНТ; ЦЕПЬ

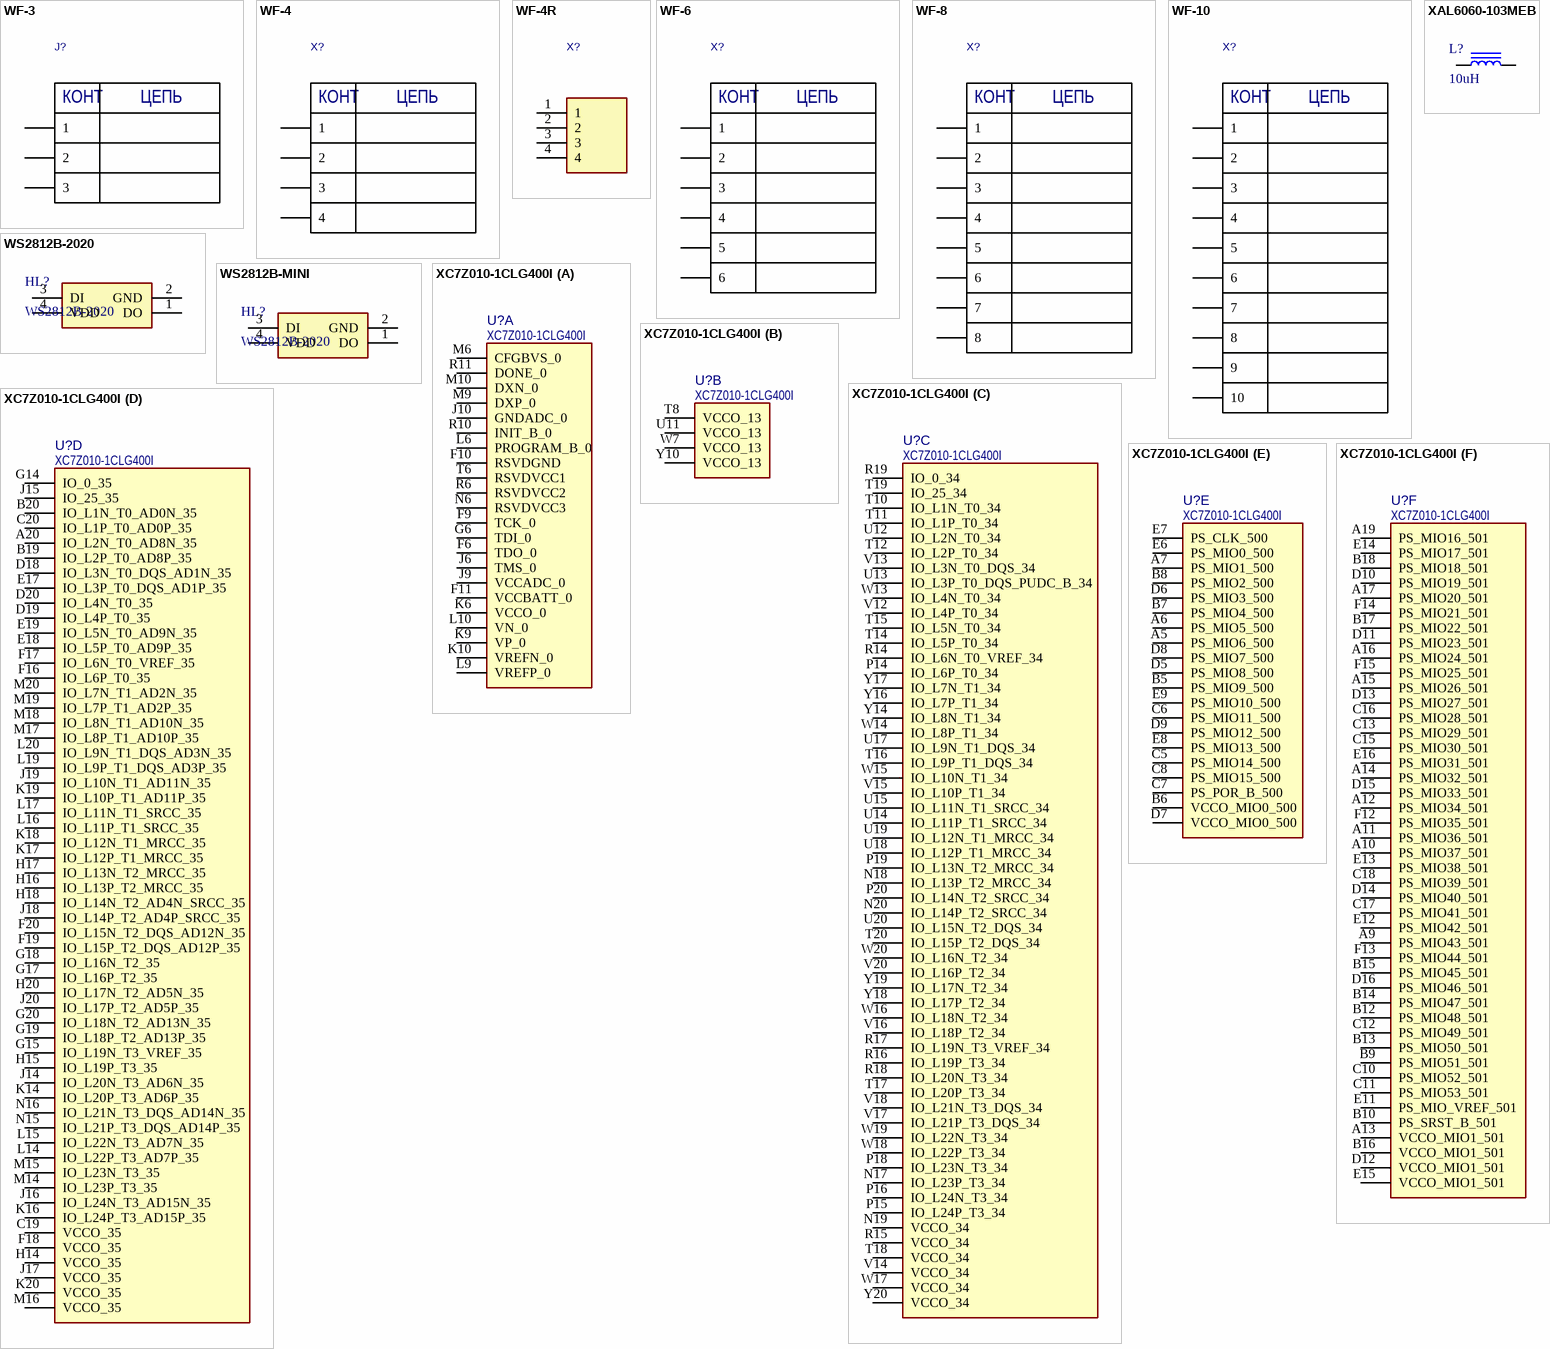
[diagram p47: symbols WF-3 to XC7Z010-1CLG400I]

## WF-3
designator J?  (value not drawn)
Connector; Manufacturer: Connfly; Part Number: WF-6; Part Number1: DS1070-6 M; System: Connector
footprint WF-3
pins: 1, 2, 3
text: КОНТ; ЦЕПЬ

## WF-4
designator X?  (value not drawn)
Connector; Manufacturer: Connfly; Part Number: WF-6; Part Number1: DS1070-6 M; System: Connector
footprint WF-4
pins: 1, 2, 3, 4
text: КОНТ; ЦЕПЬ

## WF-4R
designator X?  (value not drawn)
Connector; Manufacturer: Connfly; Part Number: PBD-6; Part Number1: DS-1023 - 2x3; System: Connector
footprint WF-4R (Footprint not found)
pins: 1, 2, 3, 4

## WF-6
designator X?  (value not drawn)
Connector; Manufacturer: Connfly; Part Number1: DS1070-6 M; System: Connector; Part Number: WF-6
footprint WF-6 (Footprint not found)
pins: 1, 2, 3, 4, 5, 6
text: КОНТ; ЦЕПЬ

## WF-8
designator X?  (value not drawn)
Connector; Manufacturer: Connfly; Part Number1: DS1070-8 M; System: Connector; Part Number: WF-8
footprint WF-8
pins: 1, 2, 3, 4, 5, 6, 7, 8
text: КОНТ; ЦЕПЬ

## WF-10
designator X?  (value not drawn)
Connector; Manufacturer: Connfly; Part Number1: DS1070-10 M; System: Connector; Part Number: WF-10
footprint WF-10 (Footprint not found)
pins: 1, 2, 3, 4, 5, 6, 7, 8, 9, 10
text: КОНТ; ЦЕПЬ

## WS2812B-2020
designator HL?
LED ADDR 2x2mm; Manufacturer_Name: Worldsemi; Manufacturer_Part_Number: WS2812-2020; Datasheet Link: http://www.world-semi.com/DownLoadFile/140; Height: 0.84mm
footprint WS28122020
pins: 1 DO, 2 GND, 3 DI, 4 VDD

## WS2812B-MINI
designator HL?, comment WS2812B-2020
LED ADDR 3,5x3,5mm; Manufacturer_Name: Worldsemi; Manufacturer_Part_Number: WS2812B-MINI; Datasheet Link: http://www.world-semi.com/DownLoadFile/140; Height: 0.84mm
footprint WS28123535 (Footprint not found)
pins: 1 DO, 2 GND, 3 DI, 4 VDD

## XAL6060-103MEB
designator L?, comment 10uH
SMT Inductor; Value: 10uH
footprint XAL6060-103MEB
pins: 1, 2

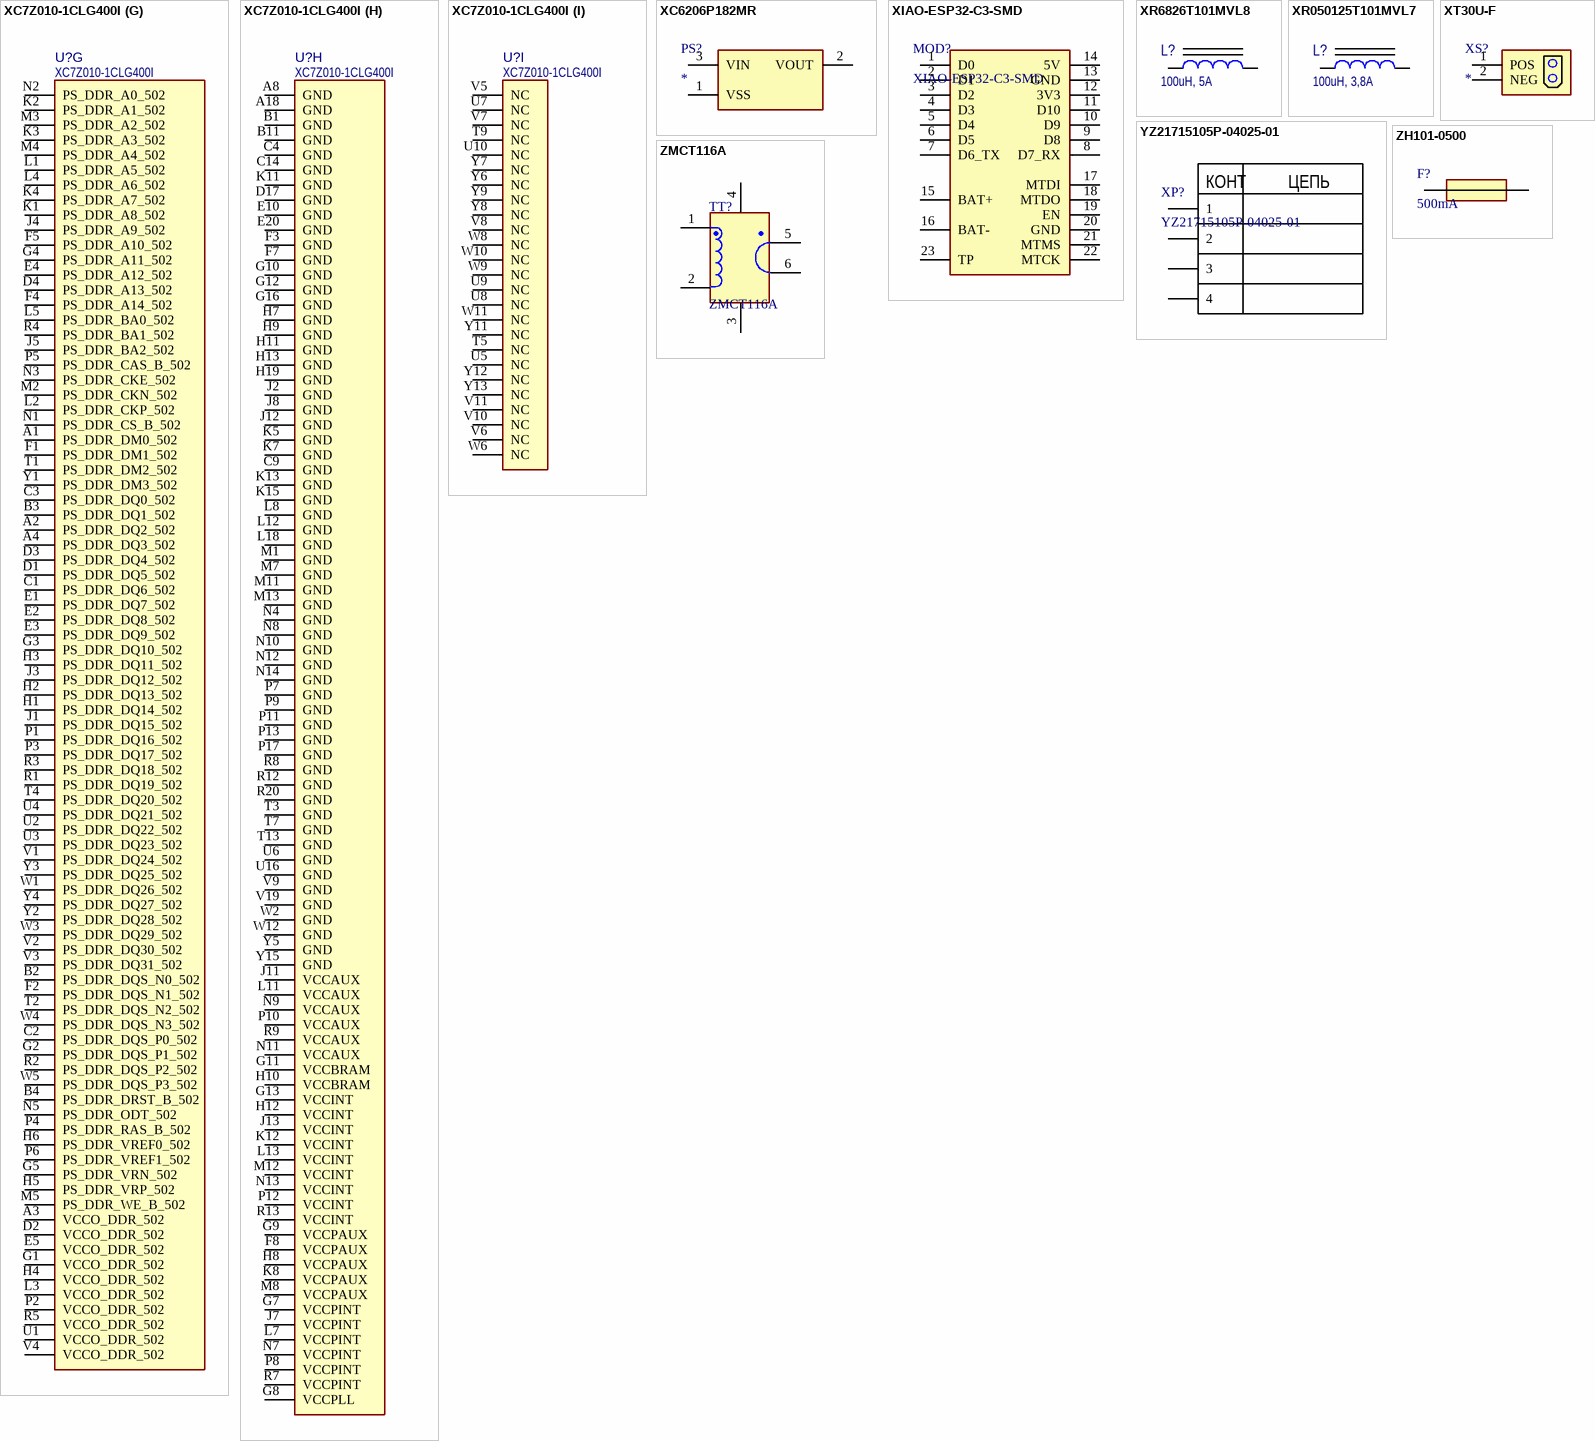
[diagram p48: symbols XC7Z010-1CLG400I to ZMCT116A]

## XC7Z010-1CLG400I
designator U?
Dual ARM® Cortex®-A9 MPCore™ with CoreSight™ System On Chip (SOC) IC Zynq®-7000 Artix™-7 FPGA, 28K Logic Cells 667MHz 400-CSPBGA (17x17); desc: xc7z010clg400; Value: XC7Z010-1CLG400I
footprint CLG400 (CLG400 (XC7Z010, XA7Z010, XC7Z020, XA7Z020), 0.8mm pitch)
part A pins: F6 TDO_0, F9 TCK_0, F10 RSVDGND, F11 VCCBATT_0, G6 TDI_0, J6 TMS_0, J9 VCCADC_0, J10 GNDADC_0, K6 VCCO_0, K9 VP_0, K10 VREFN_0, L6 PROGRAM_B_0, L9 VREFP_0, L10 VN_0, M6 CFGBVS_0, M9 DXP_0, M10 DXN_0, N6 RSVDVCC3, R6 RSVDVCC2, R10 INIT_B_0, R11 DONE_0, T6 RSVDVCC1
part B pins: T8 VCCO_13, U11 VCCO_13, W7 VCCO_13, Y10 VCCO_13
part C pins: N17 IO_L23P_T3_34, N18 IO_L13P_T2_MRCC_34, N19 VCCO_34, N20 IO_L14P_T2_SRCC_34, P14 IO_L6P_T0_34, P15 IO_L24P_T3_34, P16 IO_L24N_T3_34, P18 IO_L23N_T3_34, P19 IO_L13N_T2_MRCC_34, P20 IO_L14N_T2_SRCC_34, R14 IO_L6N_T0_VREF_34, R15 VCCO_34, R16 IO_L19P_T3_34, R17 IO_L19N_T3_VREF_34, R18 IO_L20N_T3_34, R19 IO_0_34, T10 IO_L1N_T0_34, T11 IO_L1P_T0_34, T12 IO_L2P_T0_34, T14 IO_L5P_T0_34, T15 IO_L5N_T0_34, T16 IO_L9P_T1_DQS_34, T17 IO_L20P_T3_34, T18 VCCO_34, T19 IO_25_34, T20 IO_L15P_T2_DQS_34, U12 IO_L2N_T0_34, U13 IO_L3P_T0_DQS_PUDC_B_34, U14 IO_L11P_T1_SRCC_34, U15 IO_L11N_T1_SRCC_34, U17 IO_L9N_T1_DQS_34, U18 IO_L12P_T1_MRCC_34, U19 IO_L12N_T1_MRCC_34, U20 IO_L15N_T2_DQS_34, V12 IO_L4P_T0_34, V13 IO_L3N_T0_DQS_34, V14 VCCO_34, V15 IO_L10P_T1_34, V16 IO_L18P_T2_34, V17 IO_L21P_T3_DQS_34, V18 IO_L21N_T3_DQS_34, V20 IO_L16P_T2_34, W13 IO_L4N_T0_34, W14 IO_L8P_T1_34, W15 IO_L10N_T1_34, W16 IO_L18N_T2_34, W17 VCCO_34, W18 IO_L22P_T3_34, W19 IO_L22N_T3_34, W20 IO_L16N_T2_34, Y14 IO_L8N_T1_34, Y16 IO_L7P_T1_34, Y17 IO_L7N_T1_34, Y18 IO_L17P_T2_34, Y19 IO_L17N_T2_34, Y20 VCCO_34
part D pins: A20 IO_L2N_T0_AD8N_35, B19 IO_L2P_T0_AD8P_35, B20 IO_L1N_T0_AD0N_35, C19 VCCO_35, C20 IO_L1P_T0_AD0P_35, D18 IO_L3N_T0_DQS_AD1N_35, D19 IO_L4P_T0_35, D20 IO_L4N_T0_35, E17 IO_L3P_T0_DQS_AD1P_35, E18 IO_L5P_T0_AD9P_35, E19 IO_L5N_T0_AD9N_35, F16 IO_L6P_T0_35, F17 IO_L6N_T0_VREF_35, F18 VCCO_35, F19 IO_L15P_T2_DQS_AD12P_35, F20 IO_L15N_T2_DQS_AD12N_35, G14 IO_0_35, G15 IO_L19N_T3_VREF_35, G17 IO_L16P_T2_35, G18 IO_L16N_T2_35, G19 IO_L18P_T2_AD13P_35, G20 IO_L18N_T2_AD13N_35, H14 VCCO_35, H15 IO_L19P_T3_35, H16 IO_L13P_T2_MRCC_35, H17 IO_L13N_T2_MRCC_35, H18 IO_L14N_T2_AD4N_SRCC_35, H20 IO_L17N_T2_AD5N_35, J14 IO_L20N_T3_AD6N_35, J15 IO_25_35, J16 IO_L24N_T3_AD15N_35, J17 VCCO_35, J18 IO_L14P_T2_AD4P_SRCC_35, J19 IO_L10N_T1_AD11N_35, J20 IO_L17P_T2_AD5P_35, K14 IO_L20P_T3_AD6P_35, K16 IO_L24P_T3_AD15P_35, K17 IO_L12P_T1_MRCC_35, K18 IO_L12N_T1_MRCC_35, K19 IO_L10P_T1_AD11P_35, K20 VCCO_35, L14 IO_L22P_T3_AD7P_35, L15 IO_L22N_T3_AD7N_35, L16 IO_L11P_T1_SRCC_35, L17 IO_L11N_T1_SRCC_35, L19 IO_L9P_T1_DQS_AD3P_35, L20 IO_L9N_T1_DQS_AD3N_35, M14 IO_L23P_T3_35, M15 IO_L23N_T3_35, M16 VCCO_35, M17 IO_L8P_T1_AD10P_35, M18 IO_L8N_T1_AD10N_35, M19 IO_L7P_T1_AD2P_35, M20 IO_L7N_T1_AD2N_35, N15 IO_L21P_T3_DQS_AD14P_35, N16 IO_L21N_T3_DQS_AD14N_35
part E pins: A5 PS_MIO6_500, A6 PS_MIO5_500, A7 PS_MIO1_500, B5 PS_MIO9_500, B6 VCCO_MIO0_500, B7 PS_MIO4_500, B8 PS_MIO2_500, C5 PS_MIO14_500, C6 PS_MIO11_500, C7 PS_POR_B_500, C8 PS_MIO15_500, D5 PS_MIO8_500, D6 PS_MIO3_500, D7 VCCO_MIO0_500, D8 PS_MIO7_500, D9 PS_MIO12_500, E6 PS_MIO0_500, E7 PS_CLK_500, E8 PS_MIO13_500, E9 PS_MIO10_500
part F pins: A9 PS_MIO43_501, A10 PS_MIO37_501, A11 PS_MIO36_501, A12 PS_MIO34_501, A13 VCCO_MIO1_501, A14 PS_MIO32_501, A15 PS_MIO26_501, A16 PS_MIO24_501, A17 PS_MIO20_501, A19 PS_MIO16_501, B9 PS_MIO51_501, B10 PS_SRST_B_501, B12 PS_MIO48_501, B13 PS_MIO50_501, B14 PS_MIO47_501, B15 PS_MIO45_501, B16 VCCO_MIO1_501, B17 PS_MIO22_501, B18 PS_MIO18_501, C10 PS_MIO52_501, C11 PS_MIO53_501, C12 PS_MIO49_501, C13 PS_MIO29_501, C15 PS_MIO30_501, C16 PS_MIO28_501, C17 PS_MIO41_501, C18 PS_MIO39_501, D10 PS_MIO19_501, D11 PS_MIO23_501, D12 VCCO_MIO1_501, D13 PS_MIO27_501, D14 PS_MIO40_501, D15 PS_MIO33_501, D16 PS_MIO46_501, E11 PS_MIO_VREF_501, E12 PS_MIO42_501, E13 PS_MIO38_501, E14 PS_MIO17_501, E15 VCCO_MIO1_501, E16 PS_MIO31_501, F12 PS_MIO35_501, F13 PS_MIO44_501, F14 PS_MIO21_501, F15 PS_MIO25_501
part G pins: A1 PS_DDR_DM0_502, A2 PS_DDR_DQ2_502, A3 VCCO_DDR_502, A4 PS_DDR_DQ3_502, B2 PS_DDR_DQS_N0_502, B3 PS_DDR_DQ1_502, B4 PS_DDR_DRST_B_502, C1 PS_DDR_DQ6_502, C2 PS_DDR_DQS_P0_502, C3 PS_DDR_DQ0_502, D1 PS_DDR_DQ5_502, D2 VCCO_DDR_502, D3 PS_DDR_DQ4_502, D4 PS_DDR_A13_502, E1 PS_DDR_DQ7_502, E2 PS_DDR_DQ8_502, E3 PS_DDR_DQ9_502, E4 PS_DDR_A12_502, E5 VCCO_DDR_502, F1 PS_DDR_DM1_502, F2 PS_DDR_DQS_N1_502, F4 PS_DDR_A14_502, F5 PS_DDR_A10_502, G1 VCCO_DDR_502, G2 PS_DDR_DQS_P1_502, G3 PS_DDR_DQ10_502, G4 PS_DDR_A11_502, G5 PS_DDR_VRN_502, H1 PS_DDR_DQ14_502, H2 PS_DDR_DQ13_502, H3 PS_DDR_DQ11_502, H4 VCCO_DDR_502, H5 PS_DDR_VRP_502, H6 PS_DDR_VREF0_502, J1 PS_DDR_DQ15_502, J3 PS_DDR_DQ12_502, J4 PS_DDR_A9_502, J5 PS_DDR_BA2_502, K1 PS_DDR_A8_502, K2 PS_DDR_A1_502, K3 PS_DDR_A3_502, K4 PS_DDR_A7_502, L1 PS_DDR_A5_502, L2 PS_DDR_CKP_502, L3 VCCO_DDR_502, L4 PS_DDR_A6_502, L5 PS_DDR_BA0_502, M2 PS_DDR_CKN_502, M3 PS_DDR_A2_502, M4 PS_DDR_A4_502, M5 PS_DDR_WE_B_502, N1 PS_DDR_CS_B_502, N2 PS_DDR_A0_502, N3 PS_DDR_CKE_502, N5 PS_DDR_ODT_502, P1 PS_DDR_DQ16_502, P2 VCCO_DDR_502, P3 PS_DDR_DQ17_502, P4 PS_DDR_RAS_B_502, P5 PS_DDR_CAS_B_502, P6 PS_DDR_VREF1_502, R1 PS_DDR_DQ19_502, R2 PS_DDR_DQS_P2_502, R3 PS_DDR_DQ18_502, R4 PS_DDR_BA1_502, R5 VCCO_DDR_502, T1 PS_DDR_DM2_502, T2 PS_DDR_DQS_N2_502, T4 PS_DDR_DQ20_502, U1 VCCO_DDR_502, U2 PS_DDR_DQ22_502, U3 PS_DDR_DQ23_502, U4 PS_DDR_DQ21_502, V1 PS_DDR_DQ24_502, V2 PS_DDR_DQ30_502, V3 PS_DDR_DQ31_502, V4 VCCO_DDR_502, W1 PS_DDR_DQ26_502, W3 PS_DDR_DQ29_502, W4 PS_DDR_DQS_N3_502, W5 PS_DDR_DQS_P3_502, Y1 PS_DDR_DM3_502, Y2 PS_DDR_DQ28_502, Y3 PS_DDR_DQ25_502, Y4 PS_DDR_DQ27_502
part H pins: A8 GND, A18 GND, B1 GND, B11 GND, C4 GND, C9 GND, C14 GND, D17 GND, E10 GND, E20 GND, F3 GND, F7 GND, F8 VCCPAUX, G7 VCCPINT, G8 VCCPLL, G9 VCCPAUX, G10 GND, G11 VCCBRAM, G12 GND, G13 VCCINT, G16 GND, H7 GND, H8 VCCPAUX, H9 GND, H10 VCCBRAM, H11 GND, H12 VCCINT, H13 GND, H19 GND, J2 GND, J7 VCCPINT, J8 GND, J11 VCCAUX, J12 GND, J13 VCCINT, K5 GND, K7 GND, K8 VCCPAUX, K11 GND, K12 VCCINT, K13 GND, K15 GND, L7 VCCPINT, L8 GND, L11 VCCAUX, L12 GND, L13 VCCINT, L18 GND, M1 GND, M7 GND, M8 VCCPAUX, M11 GND, M12 VCCINT, M13 GND, N4 GND, N7 VCCPINT, N8 GND, N9 VCCAUX, N10 GND, N11 VCCAUX, N12 GND, N13 VCCINT, N14 GND, P7 GND, P8 VCCPINT, P9 GND, P10 VCCAUX, P11 GND, P12 VCCINT, P13 GND, P17 GND, R7 VCCPINT, R8 GND, R9 VCCAUX, R12 GND, R13 VCCINT, R20 GND, T3 GND, T7 GND, T13 GND, U6 GND, U16 GND, V9 GND, V19 GND, W2 GND, W12 GND, Y5 GND, Y15 GND
part I pins: T5 NC, T9 NC, U5 NC, U7 NC, U8 NC, U9 NC, U10 NC, V5 NC, V6 NC, V7 NC, V8 NC, V10 NC, V11 NC, W6 NC, W8 NC, W9 NC, W10 NC, W11 NC, Y6 NC, Y7 NC, Y8 NC, Y9 NC, Y11 NC, Y12 NC, Y13 NC

## XC6206P182MR
designator PS?
Power Supply; Manufacturer_Name: Torex; Manufacturer_Part_Number: XC6206P182MR; Datasheet Link: https://componentsearchengine.com/Datasheets/2/XC6206P182MR.pdf; Height: 1.3mm
footprint SOT95P280X130-3N
pins: 1 VSS, 2 VOUT, 3 VIN

## XIAO-ESP32-C3-SMD
designator MOD?
MODULE XIAO-ESP32-C3-SMD; Manufacturer_Name: SeedStudio; Datasheet Link: http://wizwiki.net/wiki/lib/exe/fetch.php?media=products:w5500:w5500_ds_v106e_141230.pdf; Height: 1.6mm; Manufacturer_Part_Number: XIAO-ESP32-C3-SMD
footprint XIAO-ESP32-C3-SMD
pins: 1 D0, 2 D1, 3 D2, 4 D3, 5 D4, 6 D5, 7 D6_TX, 8 D7_RX, 9 D8, 10 D9, 11 D10, 12 3V3, 13 GND, 14 5V, 15 BAT+, 16 BAT-, 17 MTDI, 18 MTDO, 19 EN, 20 GND, 21 MTMS, 22 MTCK, 23 TP

## XR6826T101MVL8
designator L?, comment 100uH, 5A
Inductor, 100uH, 5A; Manufacturer: XR; Manufacturer Part Number: XR6826T101MVL8; LCSC: C22447609
footprint XR6826
pins: 1, 2

## XR050125T101MVL7
designator L?, comment 100uH, 3,8A
Inductor, 100uH, 3.8A; Manufacturer: XR; Manufacturer Part Number: XR050125T101MVL7; LCSC: C18213920
footprint XR050125
pins: 1, 2

## XT30U-F
designator XS?
Connector, Power; Manufacturer_Part_Number: XT30U-F; w: Amass; Datasheet Link: https://static.chipdip.ru/lib/579/DOC047579742.pdf; Height: 10.7mm
footprint XT30PB
pins: 1 POS, 2 NEG

## YZ21715105P-04025-01
designator XP?
Connector, Pogo Pin; Manufacturer_Name: Xinyangze; Datasheet Link: https://jlcpcb.com/partdetail/Xinyangze-YZ21715105P_0402501/C5200687; Manufacturer_Part_Number: YZ21715105P-04025-01; Arrow Part Number: S4B-PH-SM4-TB(LF)(SN); Arrow Price/Stock: https://www.arrow.com/en/products/s4b-ph-sm4-tb-lf-sn/jst-manufacturing; System: Connector
footprint YZ21715105P (Footprint not found)
pins: 1, 2, 3, 4
text: КОНТ; ЦЕПЬ

## ZH101-0500
designator F?, comment 500mA
Micro Fuse. 250V, 500mA; Manufacturer_Name: Zhen Hui Electronics; Manufacturer_Part_Number: ZH101-0500; Datasheet Link: http://en.chinafuse.com/Product/MICRO-FUSE-FAST-BLOW-_2716.html; Height: 10.45mm
footprint ZH101 (Footprint not found)
pins: 1, 2

## ZMCT116A
designator TT?
Current Transformer, 1:2500; Manufacturer: Qingxian Zeming; Part Number: ZMCT116A
footprint ZMCT116A_TH (Current Cransformer)
footprint ZMCT116A_AIR (Current Cransformer)
pins: 1, 2, 3, 4, 5, 6